# Altium schematic symbol library Ports.SchLib: 1 symbol
Pins are listed as number, name and electrical type; pins without a type are passive.

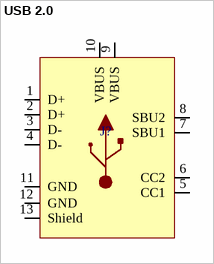
[diagram p0: symbol USB 2.0]

## USB 2.0
designator J?, comment UJ20-C-H-G-SMT-1-P16-TR  (value not drawn)
CONN RCPT USB 2.0 TYPE C SMD RA
footprint USB 2.0 (UJ20-C-H-G-SMT-1-P16-TR)
pins: 1 D+, 2 D+, 3 D-, 4 D-, 5 CC1, 6 CC2, 7 SBU1, 8 SBU2, 9 VBUS (power), 10 VBUS (power), 11 GND (power), 12 GND (power), 13 Shield